# Altium footprint library Audio_And_Signal_Transformers.PcbLib: 2 footprints
Each footprint in its own frame and in the unit in brackets; x right, y up, seen from the top. Pads: shape width x height; smd on the part's side, far side on the other; paste and mask are expansions set on the pad; w line width, h text height; cw(c..) or ccw(c..) is an arc to the next point about the centre after c.
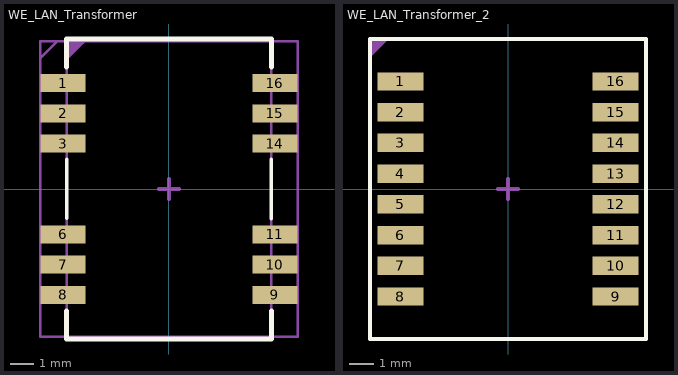
[diagram p0: the footprints below, top view; thin cyan lines are the x and y axes]

## WE_LAN_Transformer [mm]
pads (12):
  rect 1.9x0.76 smd: 1(-4.45,4.445) 2(-4.45,3.175) 3(-4.45,1.905) 6(-4.45,-1.905) 7(-4.45,-3.175) 8(-4.45,-4.445) 9(4.45,-4.445) 10(4.45,-3.175) 11(4.45,-1.905) 14(4.45,1.905) 15(4.45,3.175) 16(4.45,4.445)
Top Overlay:
  lines w0.15: -4.3,-1.225 -4.3,1.25 ; 4.3,-1.25 4.3,1.25
  lines w0.2: -4.3,-5.125 -4.3,-6.3 4.3,-6.3 4.3,-5.125 ; -4.3,5.125 -4.3,6.3 4.3,6.3 4.3,5.125
  text "." at -5.347,5.153 h0.8
Top Assembly:
  region: -4.3,6.175 -3.6,6.175 -4.3,5.475
  lines w0.1: -4.3,5.45 -3.6,6.15 ; -4.3,-6.2 4.3,-6.2 4.3,6.2 -4.3,6.2 -4.3,-6.2
  text "'.Designator'" at -0.08,5.047 h0.8
Mechanical 15:
  lines w0.1: -5.4,5.5 -4.7,6.2 ; -5.4,-6.2 5.4,-6.2 5.4,6.2 -5.4,6.2 -5.4,-6.2
  lines w0.153: -0.425,0 0.425,0 ; 0,-0.425 0,0.425
3D body "WE-LAN-749020100A (rev1).stp": height 2.94, standoff 0, extent -4.75,-6.225 4.75,6.225

## WE_LAN_Transformer_2 [mm]
pads (16):
  rect 1.9x0.76 smd: 1(-4.45,4.445) 2(-4.45,3.175) 3(-4.45,1.905) 4(-4.45,0.635) 5(-4.45,-0.635) 6(-4.45,-1.905) 7(-4.45,-3.175) 8(-4.45,-4.445) 9(4.45,-4.445) 10(4.45,-3.175) 11(4.45,-1.905) 12(4.45,-0.635) 13(4.45,0.635) 14(4.45,1.905) 15(4.45,3.175) 16(4.45,4.445)
Top Overlay:
  lines w0.153: -5.7,-6.2 -5.7,6.2 5.7,6.2 5.7,-6.2 -5.7,-6.2
  text "." at -6.347,4.653 h0.8
Top Assembly:
  region: -5.7,6.2 -5,6.2 -5.7,5.5
  lines w0.1: -5.7,5.5 -5,6.2 ; -5.7,-6.2 5.7,-6.2 5.7,6.2 -5.7,6.2 -5.7,-6.2
  text "'.Designator'" at -0.08,5.047 h0.8
Mechanical 15:
  lines w0.1: -5.7,5.5 -5,6.2 ; -5.7,-6.2 -5.7,6.2 5.7,6.2 5.7,-6.2 -5.7,-6.2
  lines w0.153: -0.425,0 0.425,0 ; 0,-0.425 0,0.425
3D body "WE-LAN-749020100A (rev1).stp": height 2.94, standoff 0, extent -4.75,-6.225 4.75,6.225